# Altium footprint library K60-mainboard-v3.1.PcbLib: 108 footprints (part 7 of 7)
Each footprint in its own frame and in the unit in brackets; x right, y up, seen from the top. Pads: shape width x height; smd on the part's side, far side on the other; paste and mask are expansions set on the pad; w line width, h text height; cw(c..) or ccw(c..) is an arc to the next point about the centre after c.
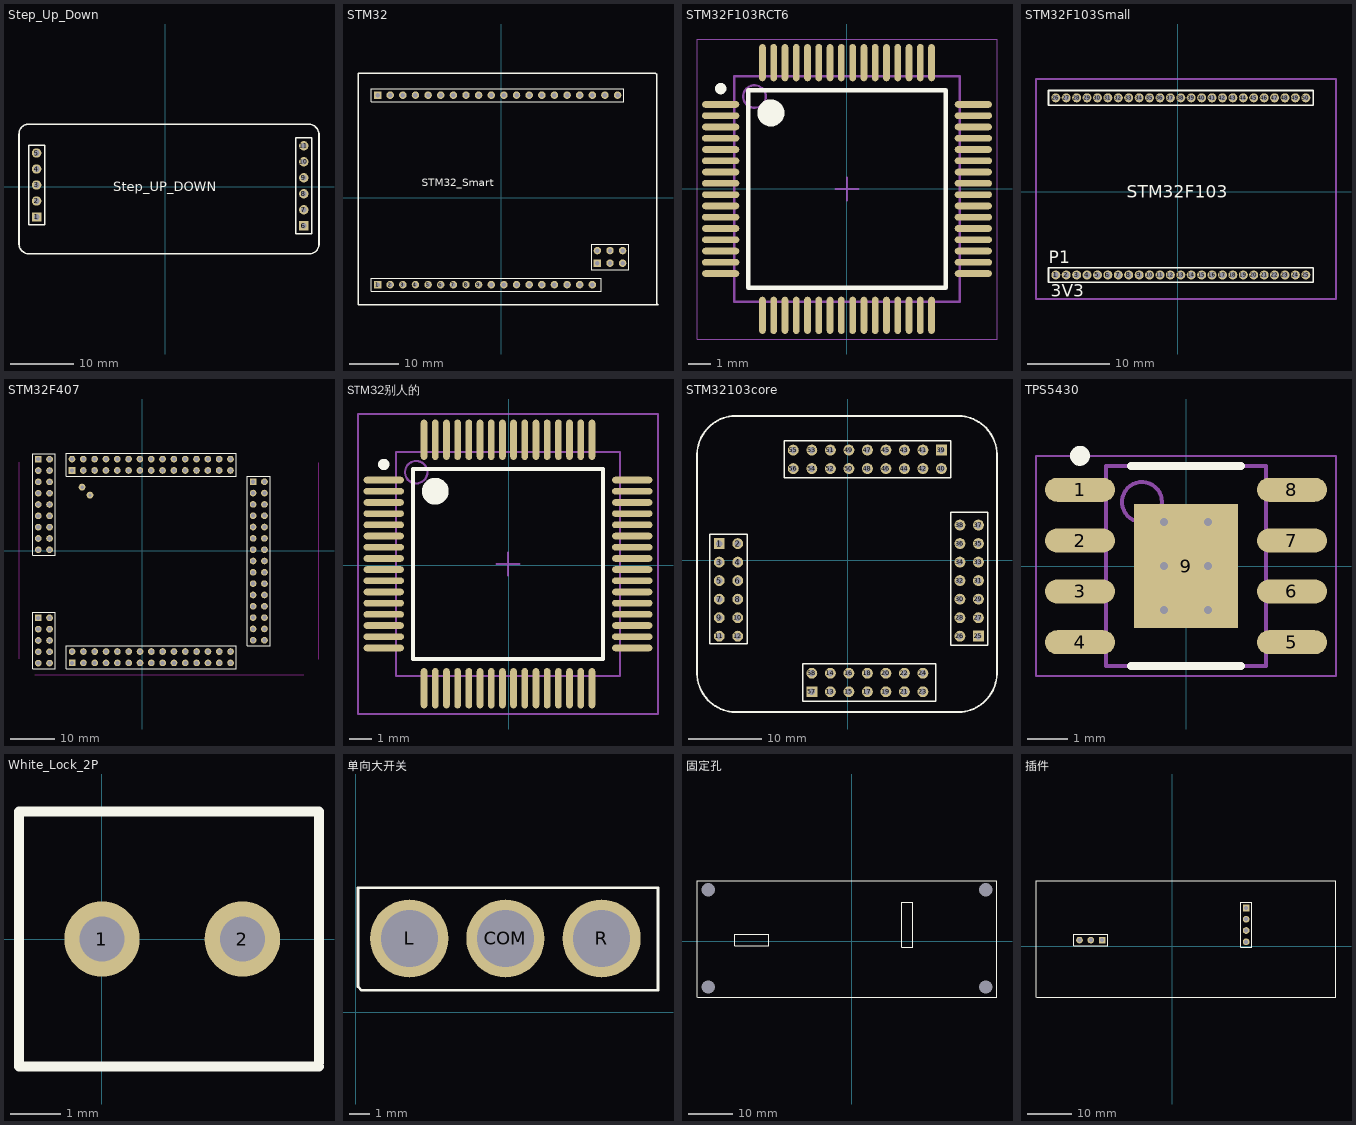
[diagram p6: the footprints below, top view; thin cyan lines are the x and y axes]

## Step_Up_Down [mm]
pads (11):
  rect 1.5x1.5 hole 0.9: 1(-20.447,-4.826) 6(21.971,-6.223)
  round 1.5 hole 0.9: 2(-20.447,-2.286) 3(-20.447,0.254) 4(-20.447,2.794) 5(-20.447,5.334) 7(21.971,-3.683) 8(21.971,-1.143) 9(21.971,1.397) 10(21.971,3.937) 11(21.971,6.477)
Top Overlay:
  lines w0.2: -21.717,-6.096 -19.177,-6.096 -19.177,6.604 -21.717,6.604 -21.717,-6.096 ; 20.701,-7.493 20.701,7.747 23.241,7.747 23.241,-7.493 20.701,-7.493
  lines w0.254: 22.606,9.906 cw(c22.733,8.255) 24.384,8.382 24.384,-9.271 cw(c22.86,-9.144) 22.733,-10.668 ; 22.733,9.906 -21.717,9.906 ccw(c-21.717,8.382) -23.241,8.382 -23.241,-9.144 ccw(c-21.653,-9.08) -21.59,-10.668 22.86,-10.668
  text "Step_UP_DOWN" at -8.255,-0.762 h1.52

## STM32 [mm]
pads (44):
  rect 1.5x1.5 hole 0.9: 1(-24.892,-17.526) 38(-24.892,20.574) 39(19.304,-13.208)
  round 1.5 hole 0.9: 2(-22.352,-17.526) 3(-19.812,-17.526) 4(-17.272,-17.526) 5(-14.732,-17.526) 6(-12.192,-17.526) 7(-9.652,-17.526) 8(-7.112,-17.526) 9(-4.572,-17.526) 10(-2.032,-17.526) 11(0.508,-17.526) 12(3.048,-17.526) 13(5.588,-17.526) 14(8.128,-17.526) 15(10.668,-17.526) 16(13.208,-17.526) 17(15.748,-17.526) 18(18.288,-17.526) 19(23.368,20.574) 20(20.828,20.574) 21(18.288,20.574) 22(15.748,20.574) 23(13.208,20.574) 24(10.668,20.574) 25(8.128,20.574) 26(5.588,20.574) 27(3.048,20.574) 28(0.508,20.574) 29(-2.032,20.574) 30(-4.572,20.574) 31(-7.112,20.574) 32(-9.652,20.574) 33(-12.192,20.574) 34(-14.732,20.574) 35(-17.272,20.574) 36(-19.812,20.574) 37(-22.352,20.574) 39(19.304,-10.668) 39(21.844,-13.208) 39(21.844,-10.668) 39(24.384,-13.208) 39(24.384,-10.668)
Top Overlay:
  lines w0.2: 20.786,-14.478 25.654,-14.478 ; 25.654,-14.478 18.034,-14.478 18.034,-9.398 25.654,-9.398 25.654,-14.478 ; -26.162,-18.796 20.066,-18.796 20.066,-16.256 -24.257,-16.256 -26.162,-16.256 -26.162,-18.796 ; -26.162,19.304 24.638,19.304 24.638,21.844 -24.257,21.844 -26.162,21.844 -26.162,19.304
  lines w0.254: 31.242,-21.209 31.242,24.892 ; -28.829,-21.59 31.496,-21.59 31.242,-21.336 31.242,24.765 30.988,25.019 -28.702,25.019 -28.829,24.892 -28.829,23.368 -28.829,-21.59
  text "STM32_Smart" at -16.002,2.286 h1.52

## STM32F103RCT6 [mm]
height 1.6
pads (64):
  oval 1.65x0.3 smd: 1(-5.6,3.75) 2(-5.6,3.25) 3(-5.6,2.75) 4(-5.6,2.25) 5(-5.6,1.75) 6(-5.6,1.25) 7(-5.6,0.75) 8(-5.6,0.25) 9(-5.6,-0.25) 10(-5.6,-0.75) 11(-5.6,-1.25) 12(-5.6,-1.75) 13(-5.6,-2.25) 14(-5.6,-2.75) 15(-5.6,-3.25) 16(-5.6,-3.75) 33(5.6,-3.75) 34(5.6,-3.25) 35(5.6,-2.75) 36(5.6,-2.25) 37(5.6,-1.75) 38(5.6,-1.25) 39(5.6,-0.75) 40(5.6,-0.25) 41(5.6,0.25) 42(5.6,0.75) 43(5.6,1.25) 44(5.6,1.75) 45(5.6,2.25) 46(5.6,2.75) 47(5.6,3.25) 48(5.6,3.75)
  oval 0.3x1.65 smd: 17(-3.75,-5.6) 18(-3.25,-5.6) 19(-2.75,-5.6) 20(-2.25,-5.6) 21(-1.75,-5.6) 22(-1.25,-5.6) 23(-0.75,-5.6) 24(-0.25,-5.6) 25(0.25,-5.6) 26(0.75,-5.6) 27(1.25,-5.6) 28(1.75,-5.6) 29(2.25,-5.6) 30(2.75,-5.6) 31(3.25,-5.6) 32(3.75,-5.6) 49(3.75,5.6) 50(3.25,5.6) 51(2.75,5.6) 52(2.25,5.6) 53(1.75,5.6) 54(1.25,5.6) 55(0.75,5.6) 56(0.25,5.6) 57(-0.25,5.6) 58(-0.75,5.6) 59(-1.25,5.6) 60(-1.75,5.6) 61(-2.25,5.6) 62(-2.75,5.6) 63(-3.25,5.6) 64(-3.75,5.6)
Top Overlay:
  circle w0.6: c-3.375,3.375 r0.3
  circle w0.25: c-5.6,4.45 r0.125
  lines w0.2: -4.375,-4.375 4.375,-4.375 4.375,4.375 -4.375,4.375 -4.375,-4.375
Mechanical 13:
  circle w0.1: c-4.1,4.1 r0.5
  lines w0.1: -5,-5 5,-5 5,5 -5,5 -5,-5
Mechanical 15:
  lines w0.05: -6.65,-6.65 6.65,-6.65 6.65,6.65 -6.65,6.65 -6.65,-6.65
  lines w0.1: -0.5,0 0.5,0 ; 0,-0.5 0,0.5
3D body: height 1.6, standoff 0.2, extent -5,-5 5,5

## STM32F103Small [mm]
pads (50):
  round 1.1 hole 0.7: 1(-14.859,-10.16) 2(-13.589,-10.16) 3(-12.319,-10.16) 4(-11.049,-10.16) 5(-9.779,-10.16) 6(-8.509,-10.16) 7(-7.239,-10.16) 8(-5.969,-10.16) 9(-4.699,-10.16) 10(-3.429,-10.16) 11(-2.159,-10.16) 12(-0.889,-10.16) 13(0.381,-10.16) 14(1.651,-10.16) 15(2.921,-10.16) 16(4.191,-10.16) 17(5.461,-10.16) 18(6.731,-10.16) 19(8.001,-10.16) 20(9.271,-10.16) 21(10.541,-10.16) 22(11.811,-10.16) 23(13.081,-10.16) 24(14.351,-10.16) 25(15.621,-10.16) 26(-14.859,11.43) 27(-13.589,11.43) 28(-12.319,11.43) 29(-11.049,11.43) 30(-9.779,11.43) 31(-8.509,11.43) 32(-7.239,11.43) 33(-5.969,11.43) 34(-4.699,11.43) 35(-3.429,11.43) 36(-2.159,11.43) 37(-0.889,11.43) 38(0.381,11.43) 39(1.651,11.43) 40(2.921,11.43) 41(4.191,11.43) 42(5.461,11.43) 43(6.731,11.43) 44(8.001,11.43) 45(9.271,11.43) 46(10.541,11.43) 47(11.811,11.43) 48(13.081,11.43) 49(14.351,11.43) 50(15.621,11.43)
Top Overlay:
  lines w0.2: -15.748,-11.049 16.51,-11.049 16.51,-9.271 -15.748,-9.271 -15.748,-11.049 ; -15.748,10.541 16.51,10.541 16.51,12.319 -15.748,12.319 -15.748,10.541
  text "3V3" at -15.494,-12.827 h1.52
  text "P1" at -15.748,-8.763 h1.52
  text "STM32F103" at -6.223,-0.762 h1.52
Mechanical 15:
  lines w0.254: -17.272,-13.081 -17.272,13.716 19.304,13.716 19.304,-13.081 -17.272,-13.081

## STM32F407 [mm]
pads (120):
  rect 1.5x1.5 hole 0.9: 1(-23.368,20.549) 19(-23.368,-15.037) 29(-15.773,-25.146) 59(24.841,15.494) 89(-15.799,18.034)
  round 1.5 hole 0.9: 2(-20.828,20.549) 3(-23.368,18.009) 4(-20.828,18.009) 5(-23.368,15.469) 6(-20.828,15.469) 7(-23.368,12.929) 8(-20.828,12.929) 9(-23.368,10.389) 10(-20.828,10.389) 11(-23.368,7.849) 12(-20.828,7.849) 13(-23.368,5.309) 14(-20.828,5.309) 15(-23.368,2.769) 16(-20.828,2.769) 17(-23.368,0.229) 18(-20.828,0.229) 20(-20.828,-15.037) 21(-23.368,-17.577) 22(-20.828,-17.577) 23(-23.368,-20.117) 24(-20.828,-20.117) 25(-23.368,-22.657) 26(-20.828,-22.657) 27(-23.368,-25.197) 28(-20.828,-25.197) 30(-15.773,-22.606) 31(-13.233,-25.146) 32(-13.233,-22.606) 33(-10.693,-25.146) 34(-10.693,-22.606) 35(-8.153,-25.146) 36(-8.153,-22.606) 37(-5.613,-25.146) 38(-5.613,-22.606) 39(-3.073,-25.146) 40(-3.073,-22.606) 41(-0.533,-25.146) 42(-0.533,-22.606) 43(2.007,-25.146) 44(2.007,-22.606) 45(4.547,-25.146) 46(4.547,-22.606) 47(7.087,-25.146) 48(7.087,-22.606) 49(9.627,-25.146) 50(9.627,-22.606) 51(12.167,-25.146) 52(12.167,-22.606) 53(14.707,-25.146) 54(14.707,-22.606) 55(17.247,-25.146) 56(17.247,-22.606) 57(19.787,-25.146) 58(19.787,-22.606) 60(27.381,15.494) 61(24.841,12.954) 62(27.381,12.954) 63(24.841,10.414) 64(27.381,10.414) 65(24.841,7.874) 66(27.381,7.874) 67(24.841,5.334) 68(27.381,5.334) 69(24.841,2.794) 70(27.381,2.794) 71(24.841,0.254) 72(27.381,0.254) 73(24.841,-2.286) 74(27.381,-2.286) 75(24.841,-4.826) 76(27.381,-4.826) 77(24.841,-7.366) 78(27.381,-7.366) 79(24.841,-9.906) 80(27.381,-9.906) 81(24.841,-12.446) 82(27.381,-12.446) 83(24.841,-14.986) 84(27.381,-14.986) 85(24.841,-17.526) 86(27.381,-17.526) 87(24.841,-20.066) 88(27.381,-20.066) 90(-15.799,20.574) 91(-13.259,18.034) 92(-13.259,20.574) 93(-10.719,18.034) 94(-10.719,20.574) 95(-8.179,18.034) 96(-8.179,20.574) 97(-5.639,18.034) 98(-5.639,20.574) 99(-3.099,18.034) 100(-3.099,20.574) 101(-0.559,18.034) 102(-0.559,20.574) 103(1.981,18.034) 104(1.981,20.574) 105(4.521,18.034) 106(4.521,20.574) 107(7.061,18.034) 108(7.061,20.574) 109(9.601,18.034) 110(9.601,20.574) 111(12.141,18.034) 112(12.141,20.574) 113(14.681,18.034) 114(14.681,20.574) 115(17.221,18.034) 116(17.221,20.574) 117(19.761,18.034) 118(19.761,20.574)
  round 1.524 hole 0.762: 119(-13.538,14.293) 120(-11.76,12.497)
Top Overlay:
  lines w0.2: -24.638,-26.467 -19.558,-26.467 -19.558,-13.767 -24.638,-13.767 -24.638,-26.467 ; -24.638,-1.041 -24.638,21.819 -19.558,21.819 -19.558,-1.041 -24.638,-1.041 ; -17.069,16.764 21.031,16.764 21.031,21.844 -17.069,21.844 -17.069,16.764 ; -17.043,-26.416 21.057,-26.416 21.057,-21.336 -17.043,-21.336 -17.043,-26.416 ; 23.571,-21.336 23.571,16.764 28.651,16.764 28.651,-21.336 23.571,-21.336
Keep-Out Layer:
  lines w0.254: -27.686,-24.206 -27.686,19.825 ; -24.119,-27.762 36.17,-27.762 ; 39.624,-24.308 39.624,19.787

## STM32别人的 [mm]
pads (64):
  oval 1.8x0.3 smd: 1(-5.588,3.81) 2(-5.588,3.31) 3(-5.588,2.81) 4(-5.588,2.31) 5(-5.588,1.81) 6(-5.588,1.31) 7(-5.588,0.81) 8(-5.588,0.31) 9(-5.588,-0.19) 10(-5.588,-0.69) 11(-5.588,-1.19) 12(-5.588,-1.69) 13(-5.588,-2.19) 14(-5.588,-2.69) 15(-5.588,-3.19) 16(-5.588,-3.69) 33(5.512,-3.69) 34(5.512,-3.19) 35(5.512,-2.69) 36(5.512,-2.19) 37(5.512,-1.69) 38(5.512,-1.19) 39(5.512,-0.69) 40(5.512,-0.19) 41(5.512,0.31) 42(5.512,0.81) 43(5.512,1.31) 44(5.512,1.81) 45(5.512,2.31) 46(5.512,2.81) 47(5.512,3.31) 48(5.512,3.81)
  oval 0.3x1.8 smd: 17(-3.788,-5.49) 18(-3.288,-5.49) 19(-2.788,-5.49) 20(-2.288,-5.49) 21(-1.788,-5.49) 22(-1.288,-5.49) 23(-0.788,-5.49) 24(-0.288,-5.49) 25(0.212,-5.49) 26(0.712,-5.49) 27(1.212,-5.49) 28(1.712,-5.49) 29(2.212,-5.49) 30(2.712,-5.49) 31(3.212,-5.49) 32(3.712,-5.49) 49(3.712,5.61) 50(3.212,5.61) 51(2.712,5.61) 52(2.212,5.61) 53(1.712,5.61) 54(1.212,5.61) 55(0.712,5.61) 56(0.212,5.61) 57(-0.288,5.61) 58(-0.788,5.61) 59(-1.288,5.61) 60(-1.788,5.61) 61(-2.288,5.61) 62(-2.788,5.61) 63(-3.288,5.61) 64(-3.788,5.61)
Top Overlay:
  circle w0.6: c-3.288,3.31 r0.3
  circle w0.25: c-5.588,4.51 r0.125
  lines w0.178: -4.288,-4.19 4.212,-4.19 4.212,4.31 -4.288,4.31 -4.288,-4.19
Mechanical 13:
  circle w0.1: c-4.138,4.16 r0.5
  lines w0.1: -5.038,-4.94 4.962,-4.94 4.962,5.06 -5.038,5.06 -5.038,-4.94
Mechanical 15:
  lines w0.1: -0.538,0.06 0.462,0.06 ; -0.038,-0.44 -0.038,0.56 ; -6.738,-6.64 6.662,-6.64 6.662,6.76 -6.738,6.76 -6.738,-6.64
3D body: height 1.6, standoff 0, extent -5.038,-4.94 4.962,5.06

## STM32103core [mm]
height 5
pads (58):
  rect 1.5x1.5 hole 0.9: 1(-17.653,2.286) 25(17.907,-10.414) 39(12.827,15.113) 57(-4.953,-18.034)
  round 1.5 hole 0.9: 2(-15.113,2.286) 3(-17.653,-0.254) 4(-15.113,-0.254) 5(-17.653,-2.794) 6(-15.113,-2.794) 7(-17.653,-5.334) 8(-15.113,-5.334) 9(-17.653,-7.874) 10(-15.113,-7.874) 11(-17.653,-10.414) 12(-15.113,-10.414) 13(-2.413,-18.034) 14(-2.413,-15.494) 15(0.127,-18.034) 16(0.127,-15.494) 17(2.667,-18.034) 18(2.667,-15.494) 19(5.207,-18.034) 20(5.207,-15.494) 21(7.747,-18.034) 22(7.747,-15.494) 23(10.287,-18.034) 24(10.287,-15.494) 26(15.367,-10.414) 27(17.907,-7.874) 28(15.367,-7.874) 29(17.907,-5.334) 30(15.367,-5.334) 31(17.907,-2.794) 32(15.367,-2.794) 33(17.907,-0.254) 34(15.367,-0.254) 35(17.907,2.286) 36(15.367,2.286) 37(17.907,4.826) 38(15.367,4.826) 40(12.827,12.573) 41(10.287,15.113) 42(10.287,12.573) 43(7.747,15.113) 44(7.747,12.573) 45(5.207,15.113) 46(5.207,12.573) 47(2.667,15.113) 48(2.667,12.573) 49(0.127,15.113) 50(0.127,12.573) 51(-2.413,15.113) 52(-2.413,12.573) 53(-4.953,15.113) 54(-4.953,12.573) 55(-7.493,15.113) 56(-7.493,12.573) 58(-4.953,-15.494)
Top Overlay:
  lines w0.2: 8.763,-19.304 -6.223,-19.304 ; 8.763,-14.224 -6.223,-14.224 ; -6.223,-19.304 12.065,-19.304 12.065,-14.224 -6.223,-14.224 ; -6.223,-19.304 -6.223,-14.224 ; -18.923,-11.43 -18.923,3.556 -13.843,3.556 -13.843,-11.43 -18.923,-11.43 ; -8.763,11.303 14.097,11.303 14.097,16.383 -8.763,16.383 -8.763,11.303 ; 14.097,-11.684 19.177,-11.684 19.177,6.604 14.097,6.604 14.097,-11.684
  lines w0.254: -15.24,-20.828 15.24,-20.828 ccw(c15.05,-15.43) 20.447,-15.24 ; -15.113,-20.828 cw(c-15.303,-15.43) -20.701,-15.621 -20.701,14.224 cw(c-15.303,14.414) -15.494,19.812 15.113,19.812 ; 14.859,19.812 cw(c15.05,14.414) 20.447,14.605 20.447,-15.621

## TPS5430 [mm]
height 1.7
pads (9):
  oval 1.75x0.6 smd: 1(-2.65,1.905) 2(-2.65,0.635) 3(-2.65,-0.635) 4(-2.65,-1.905) 5(2.65,-1.905) 6(2.65,-0.635) 7(2.65,0.635) 8(2.65,1.905)
  rect 2.6x3.1 smd: 9(0,0)
via 0.55,-1.1 diameter 0.5 hole 0.2
via -0.55,-1.1 diameter 0.5 hole 0.2
via 0.55,0 diameter 0.5 hole 0.2
via -0.55,0 diameter 0.5 hole 0.2
via 0.55,1.1 diameter 0.5 hole 0.2
via -0.55,1.1 diameter 0.5 hole 0.2
Top Overlay:
  circle w0.25: c-2.65,2.755 r0.125
  lines w0.2: -1.375,-2.5 1.375,-2.5 ; -1.375,2.5 1.375,2.5
Mechanical 13:
  circle w0.1: c-1.1,1.6 r0.5
  lines w0.1: -2,-2.5 2,-2.5 2,2.5 -2,2.5 -2,-2.5
Mechanical 15:
  lines w0.05: -3.75,-2.75 3.75,-2.75 3.75,2.75 -3.75,2.75 -3.75,-2.75
  lines w0.1: -0.5,0 0.5,0 ; 0,-0.5 0,0.5
3D body: height 1.7, standoff 0.1, extent -2,-2.5 2,2.5

## White_Lock_2P [mm]
pads (2):
  round 1.5 hole 0.9: 1(0,0) 2(2.794,0)
Top Overlay:
  lines w0.2: 4.318,-2.54 -1.651,-2.54 -1.651,2.54 4.318,2.54 4.318,-2.46

## 单向大开关 [mil]
pads (3):
  oval 150.85x150 hole 110: COM(288.5,142) L(103,142) R(474,142)
Top Overlay:
  lines w5: 4,49 4,240 583,240 583,42 11,42 4,49

## 固定孔 [mil]
pads (4):
  round 30 hole 118.11 unplated: 3(-1270,-405) 3(-1270,455) 3(1185,-405) 3(1185,455)
Top Overlay:
  lines w7.87: -1035,-40 -735,-40 ; -1035,-40 -1035,60 ; -1035,-40 -735,-40 ; -1035,-40 -1035,60 ; -1035,60 -735,60 ; -1035,60 -735,60 ; -735,-40 -735,60 ; -735,-40 -735,60 ; 440,-55 440,345 ; 440,-55 540,-55 ; 440,-55 440,345 ; 440,-55 540,-55 ; 440,345 540,345 ; 440,345 540,345 ; 540,-55 540,345 ; 540,-55 540,345
  lines w10: -1370,-495 -1370,-425 ; -1370,-430 -1370,475 -1370,535 -1170,535 1220,535 ; -1365,-495 -1185,-495 1220,-495 1285,-495 1285,535 1215,535

## 插件 [mm]
pads (7):
  rect 1.5x1.5 hole 0.9: 1(16.637,8.636) 5(-15.748,1.397)
  round 1.5 hole 0.9: 2(16.637,6.096) 3(16.637,3.556) 4(16.637,1.016) 6(-18.288,1.397) 7(-20.828,1.397)
Top Overlay:
  lines w0.2: -22.098,0.127 -14.478,0.127 ; -22.098,0.127 -22.098,2.667 ; -22.098,0.127 -14.478,0.127 ; -22.098,0.127 -22.098,2.667 ; -22.098,2.667 -14.478,2.667 ; -22.098,2.667 -14.478,2.667 ; -14.478,0.127 -14.478,2.667 ; -14.478,0.127 -14.478,2.667 ; 15.367,-0.254 15.367,9.906 ; 15.367,-0.254 17.907,-0.254 ; 15.367,-0.254 15.367,9.906 ; 15.367,-0.254 17.907,-0.254 ; 15.367,9.906 17.907,9.906 ; 15.367,9.906 17.907,9.906 ; 17.907,-0.254 17.907,9.906 ; 17.907,-0.254 17.907,9.906
  lines w0.254: -30.607,-11.43 -30.607,-9.652 ; -30.607,-9.779 -30.607,13.208 -30.607,14.732 -25.527,14.732 35.179,14.732 ; -30.48,-11.43 -25.908,-11.43 35.179,-11.43 36.83,-11.43 36.83,14.732 35.052,14.732